# Altium schematic symbol library u104Systems.SchLib: 5 symbols
Pins are listed as number, name and electrical type; pins without a type are passive.

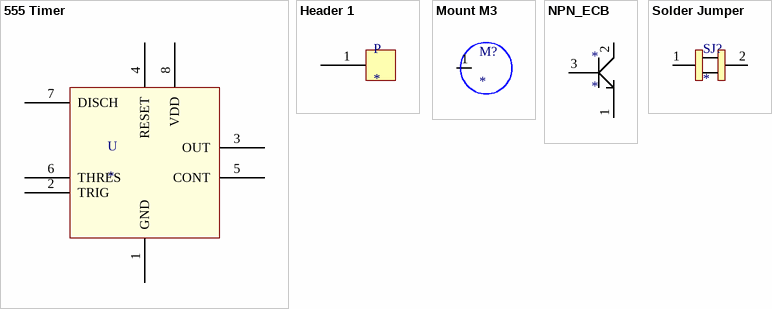
[diagram p0: symbols 555 Timer to Solder Jumper]

## 555 Timer
designator U
footprint SOIC8
pins: 1 GND, 2 TRIG, 3 OUT, 4 RESET, 5 CONT, 6 THRES, 7 DISCH, 8 VDD

## Header 1
designator P
footprint Pad
pins: 1

## Mount M3
designator M?
footprint M3
pins: 1

## NPN_ECB
designator *
pins: 1 Emitter, 2 Coll, 3 Base

## Solder Jumper
designator SJ?
pins: 1, 2